# Altium footprint library PCB - CAPACITOR - MLCC - CAP 1111_2828.PcbLib: 1 footprints
Each footprint in its own frame and in the unit in brackets; x right, y up, seen from the top. Pads: shape width x height; smd on the part's side, far side on the other; paste and mask are expansions set on the pad; w line width, h text height; cw(c..) or ccw(c..) is an arc to the next point about the centre after c.
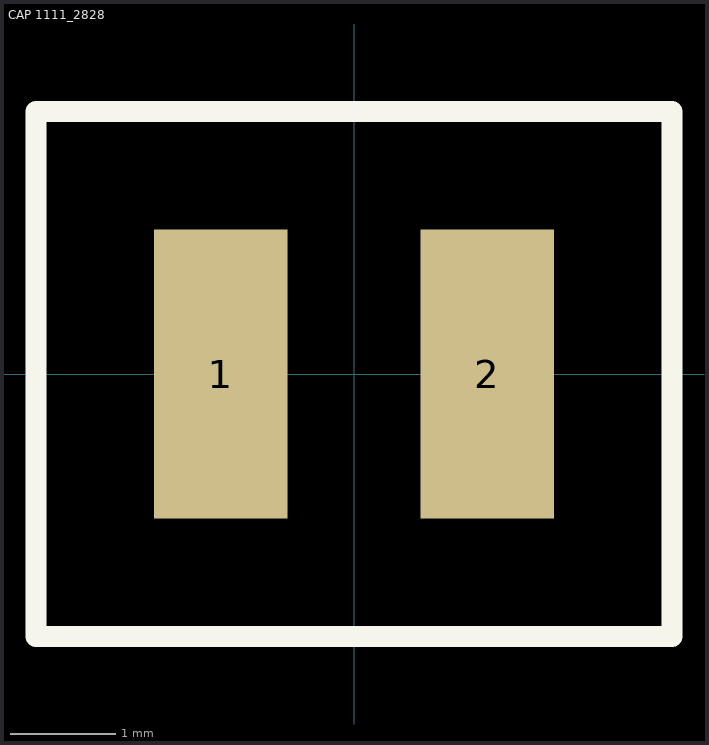
[diagram p0: the footprint, top view; thin cyan lines are the x and y axes]

## CAP 1111_2828 [mil]
pads (2):
  rect 50x108.23 smd: 1(-50,0) 2(50,0)
Top Overlay:
  lines w7.87: -119.31,-98.43 -119.31,0 -119.31,98.43 119.31,98.43 119.31,-98.43 -119.31,-98.43
3D body: height 101.97, standoff 0, extent -55,-57.5 55,57.5